# Altium schematic symbol library Btn_Horiz.SchLib: 1 symbol
Pins are listed as number, name and electrical type; pins without a type are passive.

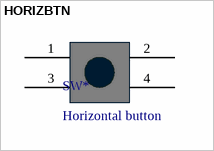
[diagram p0: symbol HORIZBTN]

## HORIZBTN
designator SW*, comment Horizontal button
footprint Btn_Horiz (Horizontal 6x6mm SMD Button)
pins: 1, 2, 3, 4